# Altium schematic symbol library TTL.SchLib: 1 symbol
Pins are listed as number, name and electrical type; pins without a type are passive.

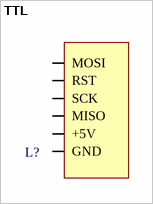
[diagram p0: symbol TTL]

## TTL
designator L?  (value not drawn)
footprint DIP10
footprint DIP10
pins: 1 MOSI, 2 RST, 3 SCK, 4 MISO, 5 +5V, 6 GND